# Altium integrated library ISSI SRAM Synchronous SRAM No-Wait(ZBT).IntLib: 1246 symbols (part 4 of 152)
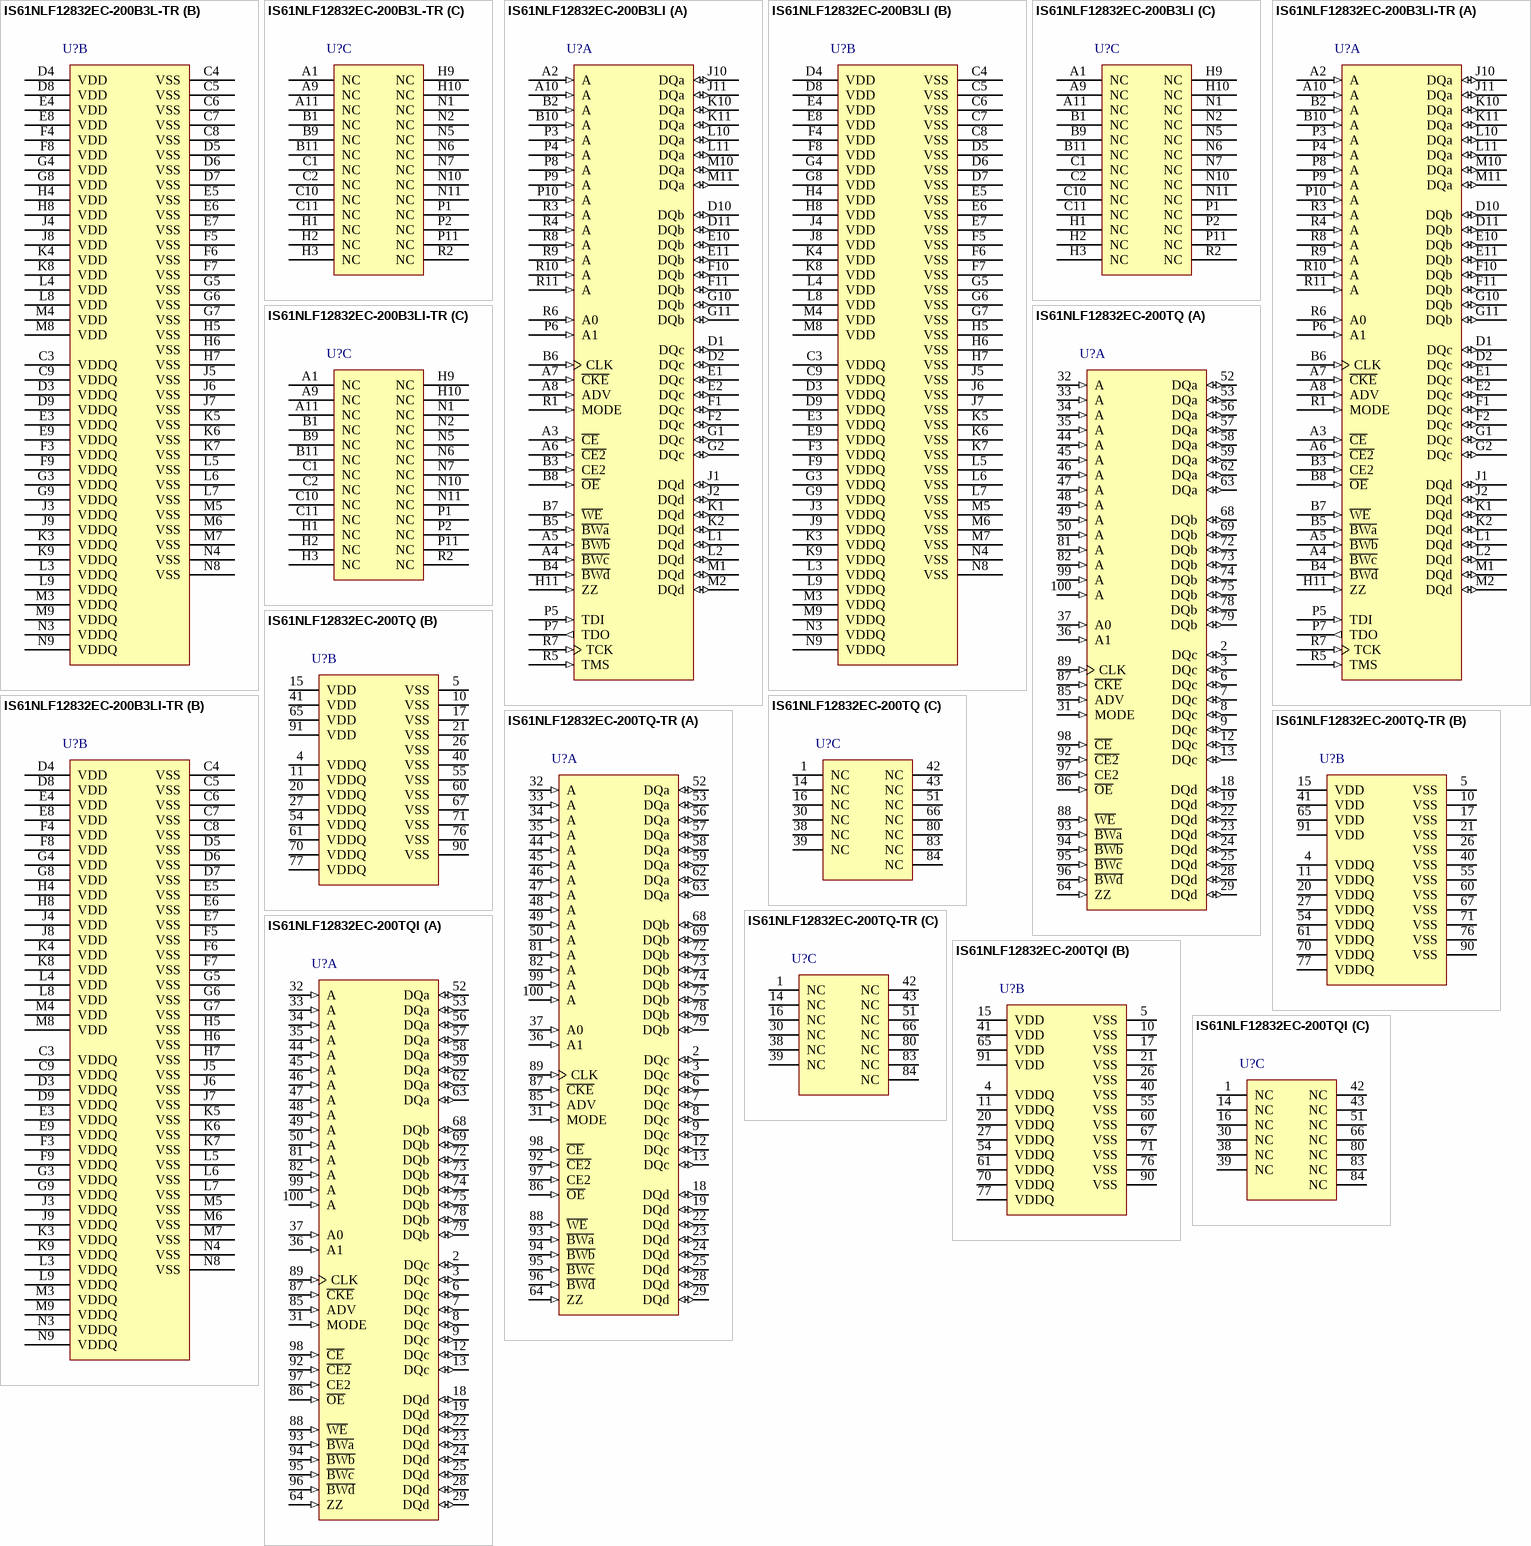
[diagram p338: symbols IS61NLF12832EC-200B3L-TR to IS61NLF12832EC-200TQI]

## IS61NLF12832EC-200TQI
designator U?
4 M Flow Through 'No Wait' State Bus Synchronous SRAM with ECC, 128 K x 32, -40 to 85 degC, 100-Pin QFP (TQFP-100); Manufacturer: Integrated Silicon Solution Inc (ISSI); PartNumber: IS61NLF12832EC-200TQI; Density: 4M; Packing: Tray / Tube; Vcc: 3.3 V; VccQ: 2.5 / 3.3 V; DatasheetVersion: Rev. A; PackageVersion: Rev. F, 09/2009; PackageReference: TQFP-100; PackageDescription: 100-Pin 20 x 14 mm LQFP, Pitch 0.65 mm; Organization: 128Kx32; Mounting Technology: Surface Mount; ComponentLink1Description: Manufacturer URL; ComponentLink1URL: http://www.issi.com/US/index.shtml; ComponentLink2Description: Datasheet; ComponentLink2URL: http://www.issi.com/WW/pdf/61-64NLF_NVF12832EC-12836EC-25618EC.pdf; ComponentLink3Description: Package Specification; ComponentLink3URL: http://www.issi.com/WW/pdf/61VPS_LPS25636A_51218A.pdf
footprint ISSI-TQFP-100-20000X14000DE_N (QFP, 100-Leads, Body 20x14mm, Pitch 0.65mm, IPC Medium Density)
part A pins: 2 DQc (io) "Asynchronous Data I/O", 3 DQc (io) "Asynchronous Data I/O", 6 DQc (io) "Asynchronous Data I/O", 7 DQc (io) "Asynchronous Data I/O", 8 DQc (io) "Asynchronous Data I/O", 9 DQc (io) "Asynchronous Data I/O", 12 DQc (io) "Asynchronous Data I/O", 13 DQc (io) "Asynchronous Data I/O", 18 DQd (io) "Asynchronous Data I/O", 19 DQd (io) "Asynchronous Data I/O", 22 DQd (io) "Asynchronous Data I/O", 23 DQd (io) "Asynchronous Data I/O", 24 DQd (io) "Asynchronous Data I/O", 25 DQd (io) "Asynchronous Data I/O", 28 DQd (io) "Asynchronous Data I/O", 29 DQd (io) "Asynchronous Data I/O", 31 MODE (in) "Burst Sequence Selection", 32 A (in) "Synchronous Address Input", 33 A (in) "Synchronous Address Input", 34 A (in) "Synchronous Address Input", 35 A (in) "Synchronous Address Input", 36 A1 (in) "Synchronous Burst Address Input", 37 A0 (in) "Synchronous Burst Address Input", 44 A (in) "Synchronous Address Input", 45 A (in) "Synchronous Address Input", 46 A (in) "Synchronous Address Input", 47 A (in) "Synchronous Address Input", 48 A (in) "Synchronous Address Input", 49 A (in) "Synchronous Address Input", 50 A (in) "Synchronous Address Input", 52 DQa (io) "Asynchronous Data I/O", 53 DQa (io) "Asynchronous Data I/O", 56 DQa (io) "Asynchronous Data I/O", 57 DQa (io) "Asynchronous Data I/O", 58 DQa (io) "Asynchronous Data I/O", 59 DQa (io) "Asynchronous Data I/O", 62 DQa (io) "Asynchronous Data I/O", 63 DQa (io) "Asynchronous Data I/O", 64 ZZ (in) "Asynchronous Power Sleep Mode", 68 DQb (io) "Asynchronous Data I/O", 69 DQb (io) "Asynchronous Data I/O", 72 DQb (io) "Asynchronous Data I/O", 73 DQb (io) "Asynchronous Data I/O", 74 DQb (io) "Asynchronous Data I/O", 75 DQb (io) "Asynchronous Data I/O", 78 DQb (io) "Asynchronous Data I/O", 79 DQb (io) "Asynchronous Data I/O", 81 A (in) "Synchronous Address Input", 82 A (in) "Synchronous Address Input", 85 ADV (in) "Synchronous Burst Address Advance/Load", 86 ~{OE} (in) "Asynchronous Output Enable", 87 ~{CKE} (in) "Clock Enable", 88 ~{WE} (in) "Synchronous Read/Write Control Input", 89 CLK (in) "Synchronous Clock", 92 ~{CE2} (in) "Synchronous Chip Enable", 93 ~{BWa} (in) "Synchronous Byte Write Input", 94 ~{BWb} (in) "Synchronous Byte Write Input", 95 ~{BWc} (in) "Synchronous Byte Write Input", 96 ~{BWd} (in) "Synchronous Byte Write Input", 97 CE2 (in) "Synchronous Chip Enable", 98 ~{CE} (in) "Synchronous Chip Enable", 99 A (in) "Synchronous Address Input", 100 A (in) "Synchronous Address Input"
part B pins: 4 VDDQ (power) "I/O Power Supply", 5 VSS (power) "Ground", 10 VSS (power) "Ground", 11 VDDQ (power) "I/O Power Supply", 15 VDD (power) "Power Supply", 17 VSS (power) "Ground", 20 VDDQ (power) "I/O Power Supply", 21 VSS (power) "Ground", 26 VSS (power) "Ground", 27 VDDQ (power) "I/O Power Supply", 40 VSS (power) "Ground", 41 VDD (power) "Power Supply", 54 VDDQ (power) "I/O Power Supply", 55 VSS (power) "Ground", 60 VSS (power) "Ground", 61 VDDQ (power) "I/O Power Supply", 65 VDD (power) "Power Supply", 67 VSS (power) "Ground", 70 VDDQ (power) "I/O Power Supply", 71 VSS (power) "Ground", 76 VSS (power) "Ground", 77 VDDQ (power) "I/O Power Supply", 90 VSS (power) "Ground", 91 VDD (power) "Power Supply"
part C pins: 1 NC "No Connect", 14 NC "No Connect", 16 NC "No Connect", 30 NC "No Connect", 38 NC "No Connect", 39 NC "No Connect", 42 NC "No Connect", 43 NC "No Connect", 51 NC "No Connect", 66 NC "No Connect", 80 NC "No Connect", 83 NC "No Connect", 84 NC "No Connect"

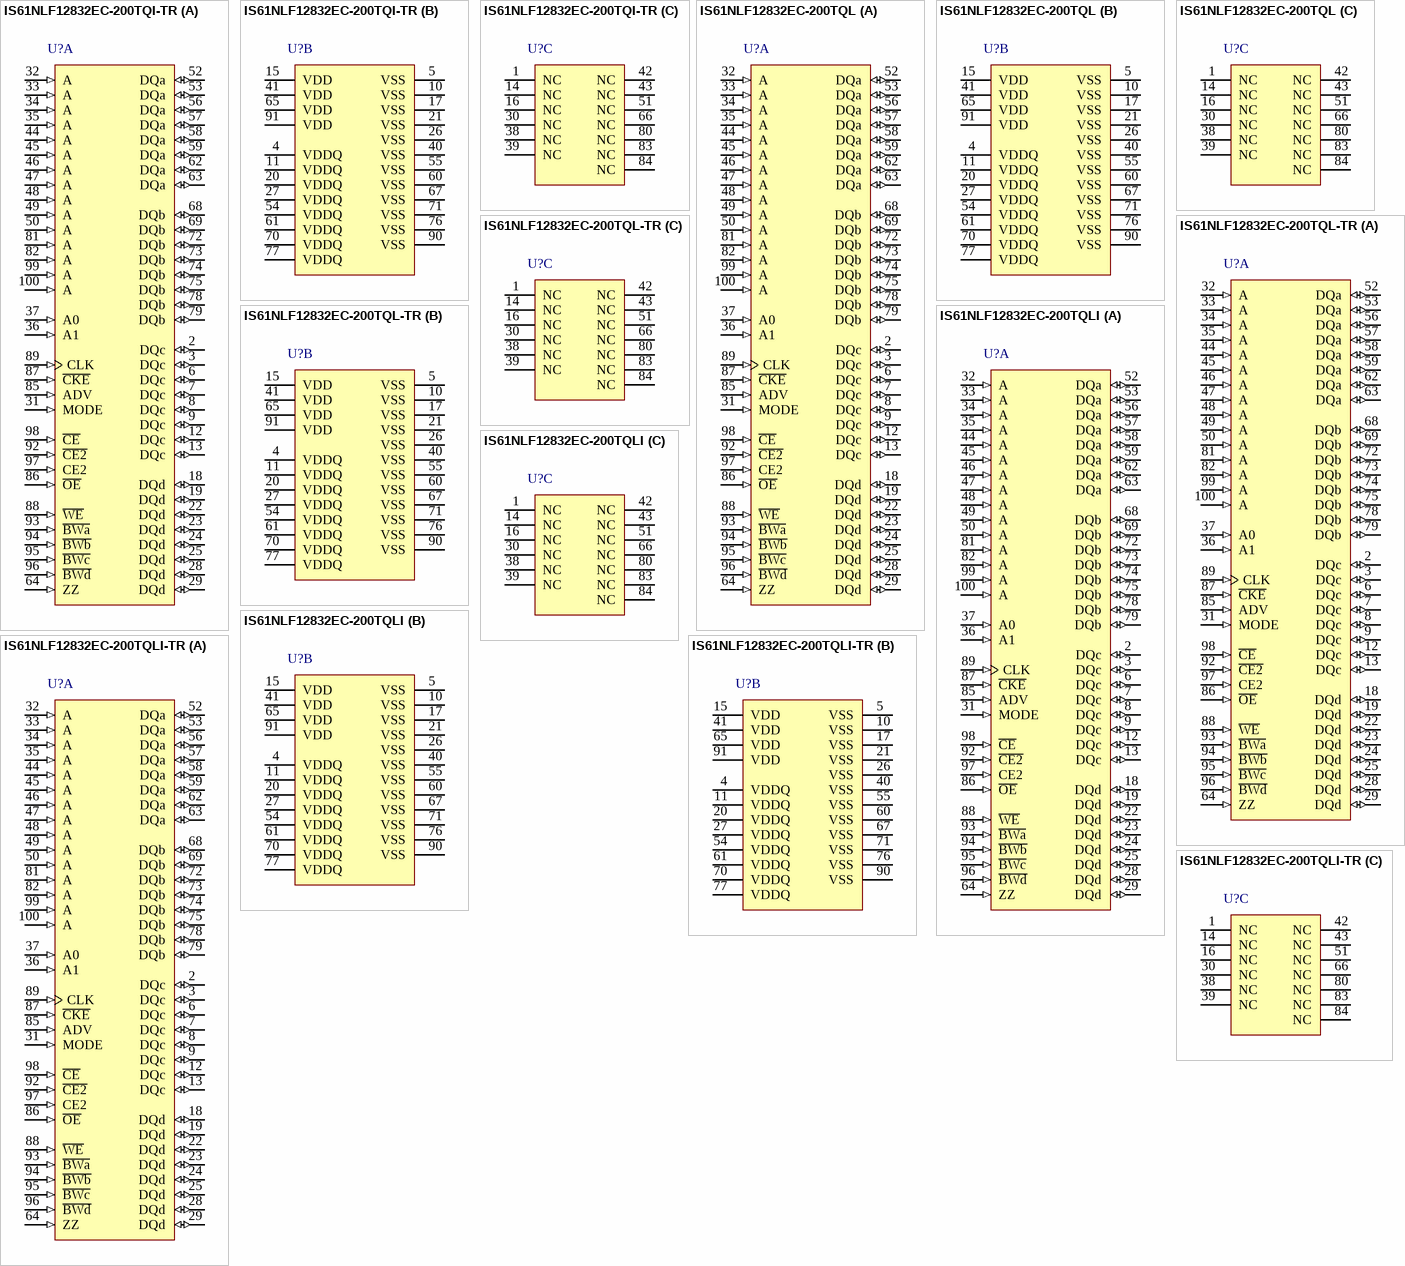
[diagram p4: symbols IS61NLF12832EC-200TQI-TR to IS61NLF12832EC-200TQLI-TR]